# EAGLE library part SMKDSP_1,5/6 (library con-phoenix-smkdsp)
Printklemme, Nennstrom: 17,5 A, Bemessungsspannung: 250 V, Raster: 5,0 mm Source: http://eshop.phoenixcontact.de .. 1733415.pdf
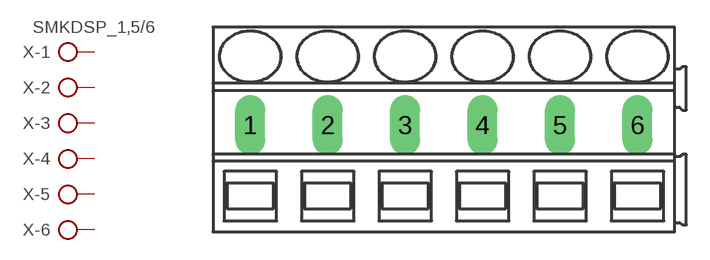
[diagram p0: symbol with the pads of SMKDSP_1,5/6; footprint SMKDSP_1,5/6]

Designator prefix X; gates -1=KLV -2=KL -3=KL -4=KL -5=KL -6=KL

## SMKDSP_1,5/6  [SMKDSP_1,5/6]
1  -1:KL  pas
2  -2:KL  pas
3  -3:KL  pas
4  -4:KL  pas
5  -5:KL  pas
6  -6:KL  pas

## Footprint SMKDSP_1,5/6 (pad centres in mm)
Printklemme, Nennstrom: 17,5 A, Bemessungsspannung: 250 V, Raster: 5,0 mm Source: http://eshop.phoenixcontact.de .. 1733415.pdf
drill 1.3 pad 1.676 long: 1 -2.5,0; 2 2.5,0; 3 7.5,0; 4 12.5,0; 5 17.5,0; 6 22.5,0